# EAGLE library part SM06B-SRSS-TB (library FootVibrator)
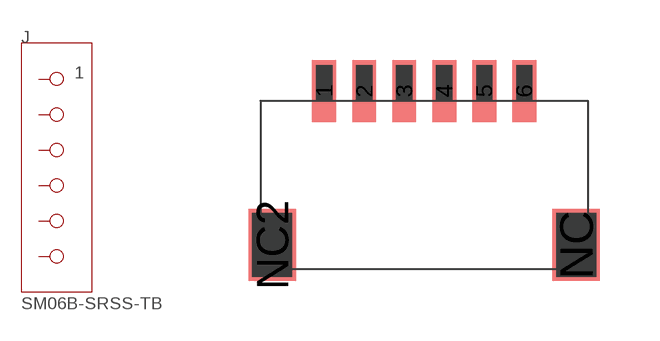
[diagram p2: symbol with the pads of SM06B-SRSS-TB; footprint SM06B-SRSS-TB]

Designator prefix J

## SM06B-SRSS-TB  [SM06B-SRSS-TB]
1  1
2  2
3  3
4  4
5  5
6  6

## Footprint SM06B-SRSS-TB (pad centres in mm)
smd 0.6 x 1.55: 1 -2.5,4.755; 2 -1.5,4.755; 3 -0.5,4.755; 4 0.5,4.755; 5 1.5,4.755; 6 2.5,4.755
smd 1.2 x 1.8: NC 3.8,0.9; NC2 -3.8,0.9